# EAGLE library part 68712514022 (library Eagle_FPC_CONNECTOR_AND_FFC_CAB (rev18c))
WR-FPC 0.5mm SMT ZIF Horizontal Top Contact, 25 Pins=>Code : Con_FPC_ZIF_0.50_68712514022 <http://katalog.we-online.de/media/images/eican/Con_FPC_ZIF_0.50_6871xx14022_pf2.jpg> Details see: http://katalog.we-online.de/en/em/687_1xx_140_22 Created 2014-07-09, Karrer Zheng 2014 (C) Würth Elektronik
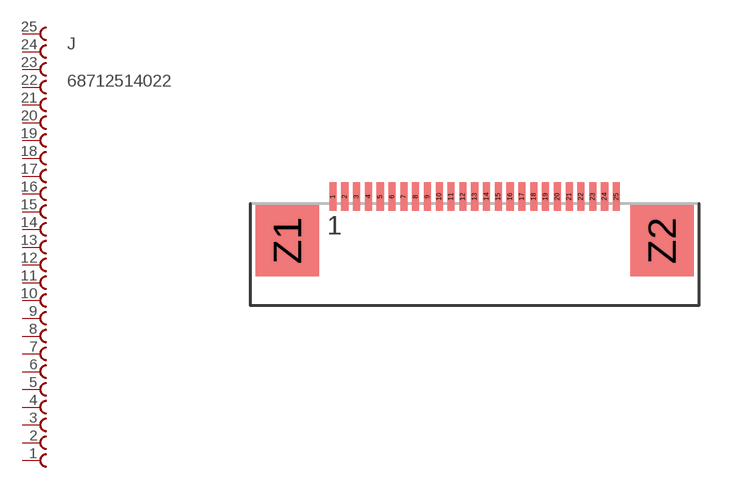
[diagram p26: symbol with the pads of 68712514022; footprint 68712514022]

Designator prefix J

## 68712514022  [68712514022]
1  25  pas
2  24  pas
3  23  pas
4  22  pas
5  21  pas
6  20  pas
7  19  pas
8  18  pas
9  17  pas
10  16  pas
11  15  pas
12  14  pas
13  13  pas
14  12  pas
15  11  pas
16  10  pas
17  9  pas
18  8  pas
19  7  pas
20  6  pas
21  5  pas
22  4  pas
23  3  pas
24  2  pas
25  1  pas

## Footprint 68712514022 (pad centres in mm)
WR-FPC 0.5mm SMT ZIF Horizontal Top Contact, 25 Pins
smd 0.3 x 1.2: 1 -6.25,1.86; 2 -5.75,1.86; 3 -5.25,1.86; 4 -4.75,1.86; 5 -4.25,1.86; 6 -3.75,1.86; 7 -3.25,1.86; 8 -2.75,1.86; 9 -2.25,1.86; 10 -1.75,1.86; 11 -1.25,1.86; 12 -0.75,1.86; 13 -0.25,1.86; 14 0.25,1.86; 15 0.75,1.86; 16 1.25,1.86; 17 1.75,1.86; 18 2.25,1.86; 19 2.75,1.86; 20 3.25,1.86; 21 3.75,1.86; 22 4.25,1.86; 23 4.75,1.86; 24 5.25,1.86; 25 5.75,1.86
smd 2.7 x 3: Z1 -8.18,0; Z2 7.68,0